# EAGLE library part STEPSTICK_TMS2100 (library AL-StepStick)
TMC2100 StepStick Stepper Motor Driver https://github.com/watterott/SilentStepStick/tree/master/hardware
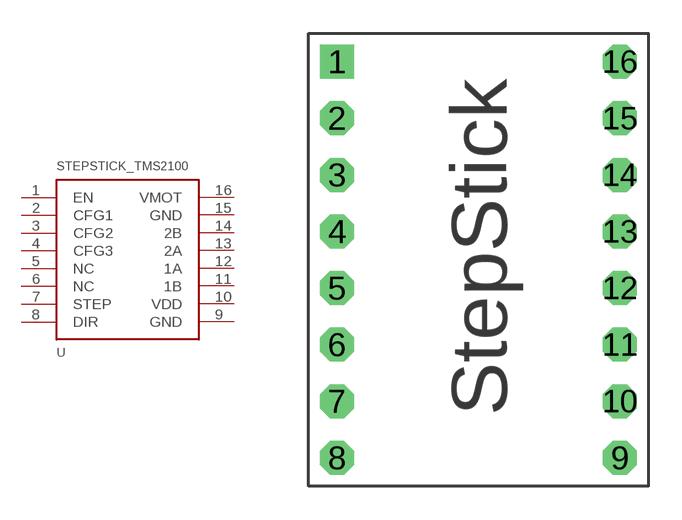
[diagram p0: symbol with the pads of STEPSTICK; footprint STEPSTICK]

Designator prefix U

## STEPSTICK_TMS2100  [STEPSTICK]
1  EN
2  CFG1
3  CFG2
4  CFG3
5  NC
6  NC
7  STEP
8  DIR
9  GND
10  VDD
11  1B
12  1A
13  2A
14  2B
15  GND
16  VMOT

## Footprint STEPSTICK (pad centres in mm)
StepStick Stepper Motor Driver
drill 1.016 square: 1 -6.35,8.89
drill 1.016 octagon: 2 -6.35,6.35; 3 -6.35,3.81; 4 -6.35,1.27; 5 -6.35,-1.27; 6 -6.35,-3.81; 7 -6.35,-6.35; 8 -6.35,-8.89; 9 6.35,-8.89; 10 6.35,-6.35; 11 6.35,-3.81; 12 6.35,-1.27; 13 6.35,1.27; 14 6.35,3.81; 15 6.35,6.35; 16 6.35,8.89